# EAGLE library part BEAGLE_BONE_CAPE (library Mechanical)
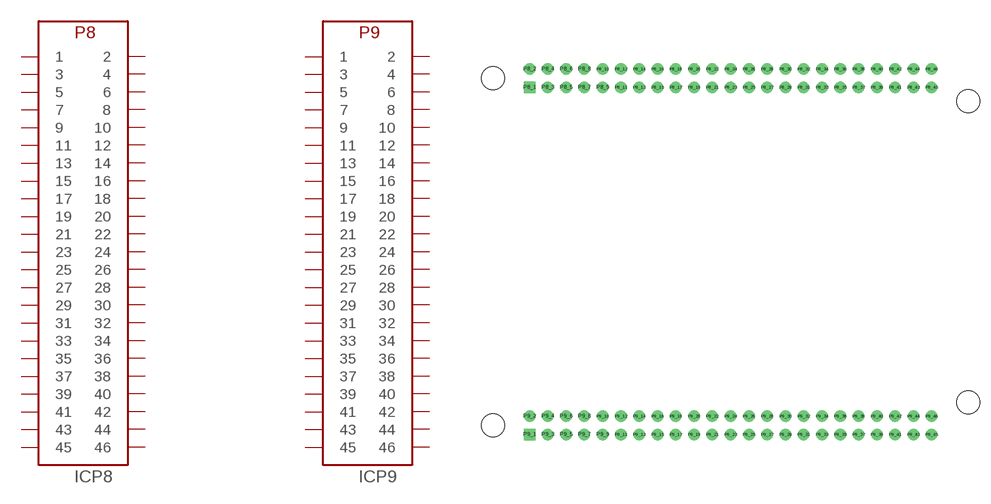
[diagram p85: symbol with the pads of BEAGLE_BONE_CAPE; footprint BEAGLE_BONE_CAPE]

Designator prefix IC; gates P8=BEAGLE_BONE_P8 P9=BEAGLE_BONE_P9

## BEAGLE_BONE_CAPE-HEADER_ONLY  [BEAGLE_BONE_CAPE]
P8_1  P8:1
P8_2  P8:2
P8_3  P8:3
P8_4  P8:4
P8_5  P8:5
P8_6  P8:6
P8_7  P8:7
P8_8  P8:8
P8_9  P8:9
P8_10  P8:10
P8_11  P8:11
P8_12  P8:12
P8_13  P8:13
P8_14  P8:14
P8_15  P8:15
P8_16  P8:16
P8_17  P8:17
P8_18  P8:18
P8_19  P8:19
P8_20  P8:20
P8_21  P8:21
P8_22  P8:22
P8_23  P8:23
P8_24  P8:24
P8_25  P8:25
P8_26  P8:26
P8_27  P8:27
P8_28  P8:28
P8_29  P8:29
P8_30  P8:30
P8_31  P8:31
P8_32  P8:32
P8_33  P8:33
P8_34  P8:34
P8_35  P8:35
P8_36  P8:36
P8_37  P8:37
P8_38  P8:38
P8_39  P8:39
P8_40  P8:40
P8_41  P8:41
P8_42  P8:42
P8_43  P8:43
P8_44  P8:44
P8_45  P8:45
P8_46  P8:46
P9_1  P9:1
P9_2  P9:2
P9_3  P9:3
P9_4  P9:4
P9_5  P9:5
P9_6  P9:6
P9_7  P9:7
P9_8  P9:8
P9_9  P9:9
P9_10  P9:10
P9_11  P9:11
P9_12  P9:12
P9_13  P9:13
P9_14  P9:14
P9_15  P9:15
P9_16  P9:16
P9_17  P9:17
P9_18  P9:18
P9_19  P9:19
P9_20  P9:20
P9_21  P9:21
P9_22  P9:22
P9_23  P9:23
P9_24  P9:24
P9_25  P9:25
P9_26  P9:26
P9_27  P9:27
P9_28  P9:28
P9_29  P9:29
P9_30  P9:30
P9_31  P9:31
P9_32  P9:32
P9_33  P9:33
P9_34  P9:34
P9_35  P9:35
P9_36  P9:36
P9_37  P9:37
P9_38  P9:38
P9_39  P9:39
P9_40  P9:40
P9_41  P9:41
P9_42  P9:42
P9_43  P9:43
P9_44  P9:44
P9_45  P9:45
P9_46  P9:46

## Footprint BEAGLE_BONE_CAPE (pad centres in mm)
drill 1.067 square: P8_1 -55.88,48.26; P9_1 -55.88,0
drill 1.067: P8_2 -55.88,50.8; P8_3 -53.34,48.26; P8_4 -53.34,50.8; P8_5 -50.8,48.26; P8_6 -50.8,50.8; P8_7 -48.26,48.26; P8_8 -48.26,50.8; P8_9 -45.72,48.26; P8_10 -45.72,50.8; P8_11 -43.18,48.26; P8_12 -43.18,50.8; P8_13 -40.64,48.26; P8_14 -40.64,50.8; P8_15 -38.1,48.26; P8_16 -38.1,50.8; P8_17 -35.56,48.26; P8_18 -35.56,50.8; P8_19 -33.02,48.26; P8_20 -33.02,50.8; P8_21 -30.48,48.26; P8_22 -30.48,50.8; P8_23 -27.94,48.26; P8_24 -27.94,50.8; P8_25 -25.4,48.26; P8_26 -25.4,50.8; P8_27 -22.86,48.26; P8_28 -22.86,50.8; P8_29 -20.32,48.26; P8_30 -20.32,50.8; P8_31 -17.78,48.26; P8_32 -17.78,50.8; P8_33 -15.24,48.26; P8_34 -15.24,50.8; P8_35 -12.7,48.26; P8_36 -12.7,50.8; P8_37 -10.16,48.26; P8_38 -10.16,50.8; P8_39 -7.62,48.26; P8_40 -7.62,50.8; P8_41 -5.08,48.26; P8_42 -5.08,50.8; P8_43 -2.54,48.26; P8_44 -2.54,50.8; P8_45 0,48.26; P8_46 0,50.8; P9_2 -55.88,2.54; P9_3 -53.34,0; P9_4 -53.34,2.54; P9_5 -50.8,0; P9_6 -50.8,2.54; P9_7 -48.26,0; P9_8 -48.26,2.54; P9_9 -45.72,0; P9_10 -45.72,2.54; P9_11 -43.18,0; P9_12 -43.18,2.54; P9_13 -40.64,0; P9_14 -40.64,2.54; P9_15 -38.1,0; P9_16 -38.1,2.54; P9_17 -35.56,0; P9_18 -35.56,2.54; P9_19 -33.02,0; P9_20 -33.02,2.54; P9_21 -30.48,0; P9_22 -30.48,2.54; P9_23 -27.94,0; P9_24 -27.94,2.54; P9_25 -25.4,0; P9_26 -25.4,2.54; P9_27 -22.86,0; P9_28 -22.86,2.54; P9_29 -20.32,0; P9_30 -20.32,2.54; P9_31 -17.78,0; P9_32 -17.78,2.54; P9_33 -15.24,0; P9_34 -15.24,2.54; P9_35 -12.7,0; P9_36 -12.7,2.54; P9_37 -10.16,0; P9_38 -10.16,2.54; P9_39 -7.62,0; P9_40 -7.62,2.54; P9_41 -5.08,0; P9_42 -5.08,2.54; P9_43 -2.54,0; P9_44 -2.54,2.54; P9_45 0,0; P9_46 0,2.54
hole 3.175 at -60.96,49.53
hole 3.175 at 5.08,46.355
hole 3.175 at 5.08,4.445
hole 3.175 at -60.96,1.27